# Altium schematic symbol library Componentes_base.SchLib: 431 symbols (part 12 of 12)
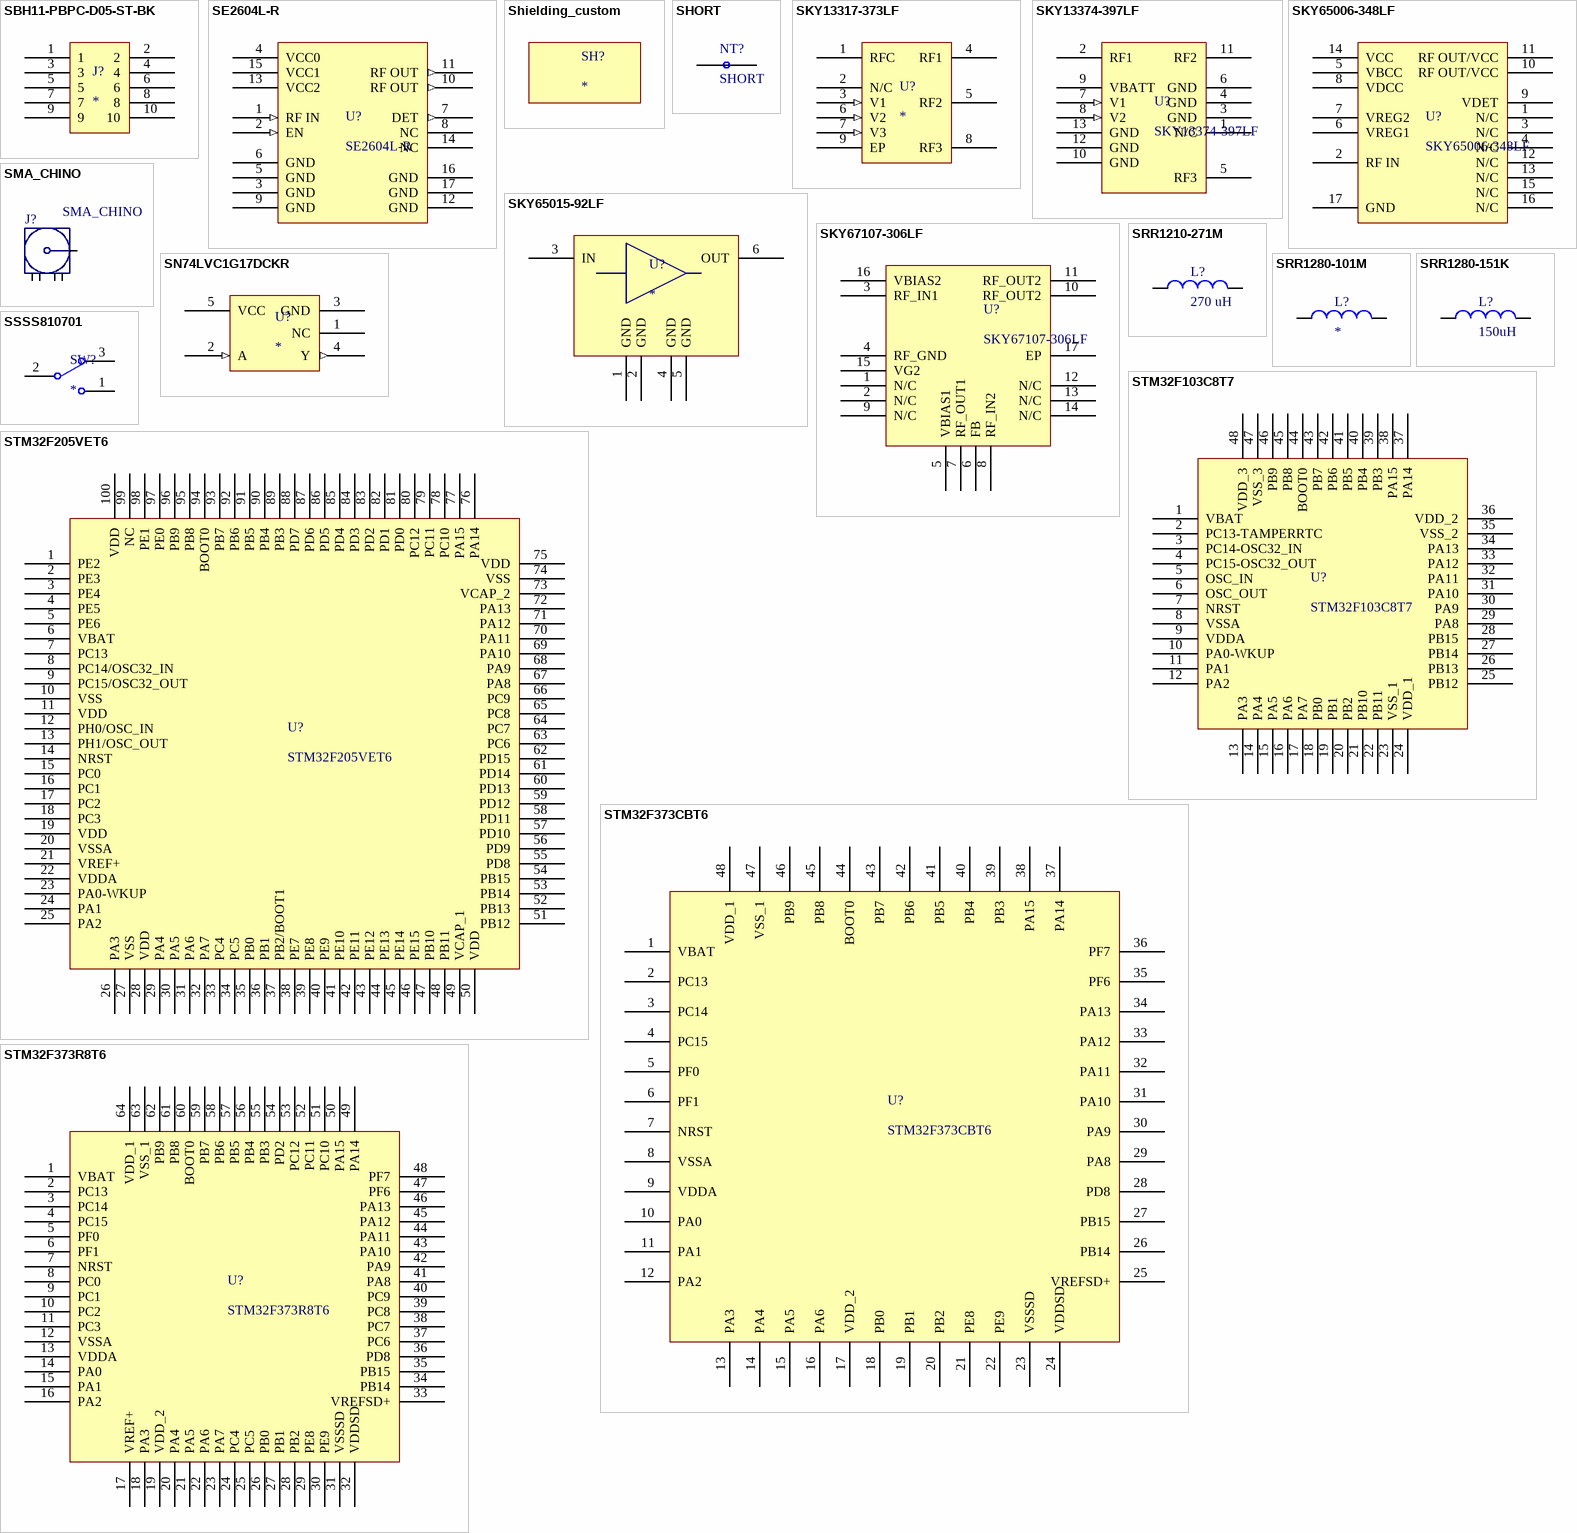
[diagram p25: symbols SBH11-PBPC-D05-ST-BK to STM32F373R8T6]

## SRR1280-151K
designator L?, comment 150uH
FIXED IND 150UH 1.85A 270 MOHM; Manufacturer: Bourns; Manufacturer Part Number: SRR1280-151K; Tolerance: 10; Core Material: Ferrite; Inductance: 150; DC Resistance (DCR): 270; Max DC Current: 1.85; Saturation Current: 1.9; Shielding: Shielded; Self Resonant Frequency: 4.1; Q Factor: 24; Resistance: 0.27; Test Frequency: 100; Material: Steel; Supplier 1: Farnell; Stock 1: 180; Pricing 1: 1=0.705, 10=0.66, 25=0.615, 50=0.529, 100=0.503 (EUR); Mount: Surface Mount; Case/Package: Nonstandard; Pins: 2; Min Operating Temperature: -40; Max Operating Temperature: 125; Package Quantity: 1; Current Rating: 1.85; Packaging: Tape and Reel; Frequency: 4.1; Composition: Wirewound; Termination: SMD; RMS Current (Irms): 1.85; DC Current: 1.85; Military Standard: Not; Length: 0.492; Height: 8; Width: 12.5; Height - Seated (Max): 0.315; Depth: 12.5; REACH SVHC: No SVHC; ComponentLink1URL: https://datasheet.ciiva.com/3082/srr1280-3082288.pdf; ComponentLink1Description: https://datasheet.ciiva.com/3082/srr1280-3082288.pdf; ComponentLink2URL: https://datasheet.ciiva.com/11802/0900766b80ddd400-11802893.pdf; ComponentLink2Description: https://datasheet.ciiva.com/11802/0900766b80ddd400-11802893.pdf; ComponentLink3URL: https://datasheet.ciiva.com/1049/srr1280-1049999.pdf; ComponentLink3Description: https://datasheet.ciiva.com/1049/srr1280-1049999.pdf; ComponentLink4URL: https://datasheet.ciiva.com/22678/1635217-22678093.pdf; ComponentLink4Description: https://datasheet.ciiva.com/22678/1635217-22678093.pdf; ComponentLink5URL: https://datasheet.ciiva.com/48488/srr1280-48488286.pdf; ComponentLink5Description: https://datasheet.ciiva.com/48488/srr1280-48488286.pdf; ComponentLink6URL: https://datasheet.ciiva.com/1049/srr1280-1049998.pdf; ComponentLink6Description: https://datasheet.ciiva.com/1049/srr1280-1049998.pdf; ComponentLink7URL: https://datasheet.ciiva.com/30158/srr1280-30158282.pdf; ComponentLink7Description: https://datasheet.ciiva.com/30158/srr1280-30158282.pdf; ComponentLink8URL: https://datasheet.ciiva.com/8516/srr1280-8516965.pdf; ComponentLink8Description: https://datasheet.ciiva.com/8516/srr1280-8516965.pdf; ComponentLink9URL: https://datasheet.ciiva.com/1050/srr1280-1050000.pdf; ComponentLink9Description: https://datasheet.ciiva.com/1050/srr1280-1050000.pdf; ComponentLink10URL: https://datasheet.ciiva.com/22717/1635217-22717989.pdf; ComponentLink10Description: https://datasheet.ciiva.com/22717/1635217-22717989.pdf; ComponentLink11URL: https://datasheet.ciiva.com/17285/srr1280-17285880.pdf; ComponentLink11Description: https://datasheet.ciiva.com/17285/srr1280-17285880.pdf; ComponentLink12URL: https://datasheet.ciiva.com/28679/1635217-28679735.pdf; ComponentLink12Description: https://datasheet.ciiva.com/28679/1635217-28679735.pdf; Supplier Part Number 1: 2393174
footprint INDP125125X80N (Precision Wire Wound Inductor, 2-Leads, Body 12,50x12,50mm, IPC Medium Density)
pins: 1, 2

## SSSS810701
designator SW?
Slide Switches Horiz 1 Pole 2 Pos 1.1 Knob 1.5 Travel; Manufacturer: ALPS; Manufacturer Part Number: SSSS810701; Contact Form: SPDT; Illumination: Non-Illuminated; Switch Function: ON - ON; Voltage Rating DC: 5 V; Contact Current Rating: 0.3 A at 5 V; Travel: 2 mm; Supplier 1: Mouser; RoHS: RoHS Compliant; Category: Slide Switches; Stock 1: 18812; Pricing 1: 1=0.216, 25=0.203, 50=0.188, 100=0.172, 1000=0.156, 4500=0.140 (EUR); Packaging: Reel; Brand: ALPS; Mounting Style: SMD/SMT; Standard Pack Qty: 4500; RoHS - Mouser: Y; Minimum Order Quantity: 1; Reeling: True; ComponentLink1URL: http://www.alps.com/products/WebObjects/catalog.woa/E/HTML/Switch/Slide/SSSS8/SSSS810701.html; ComponentLink1Description: http://www.alps.com/products/WebObjects/catalog.woa/E/HTML/Switch/Slide/SSSS8/SSSS810701.html; Supplier Part Number 1: 688-SSSS810701
footprint ALPS SSS810701 (ALPS SLIDE SWITCH SPDT SMD PC High Density)
pins: 1, 2, 3

## STM32F103C8T7
designator U?
ARM Microcontrollers - MCU 32BIT Cortex M3 Medium-density; Manufacturer: STMicroelectronics; Family Name: STM32F; Device Core: ARM Cortex M3; Program Memory Size: 64 kB; Maximum Frequency: 72MHz; RAM Size: 20 kB; USB Channels: 1 x Device; Number of PWM Units: 1; ADC Channels: 10; Number of SPI Channels: 2; Typical Operating Supply Voltage: 2 → 3.6 V; Timers: 3 x 16 bit; Pulse Width Modulation: 1(16 bit) (Motor Control); Instruction Set Architecture: RISC; PWM Resolution: 16bit; Program Memory Type: Flash; ADCs: 2(10 x 12 bit); Number of USART Channels: 3; ADC Resolution: 12bit; Supplier 1: Digi-Key; Manufacturer Part Number: STM32F103C8T7; Stock 1: 2415; Pricing 1: 1=5.05, 10=4.536, 250=3.5256, 500=3.1635, 1000=2.668 (USD); Package Type: LQFP; Mounting Type: Surface Mount; Pin Count: 48; Data Bus Width: 32bit; Dimensions: 7.2 x 7.2 x 1.45mm; Maximum Operating Temperature: +105 °C; Height: 1.45mm; Number of I2C Channels: 2; Number of CAN Channels: 1; Minimum Operating Temperature: -40 °C; Width: 7.2mm; Number of ADC Units: 2; Number of Timers: 3; Timer Resolution: 16bit; Length: 7.2mm; Supplier Part Number 1: 497-11517-ND
footprint TSQFP50P900X900X160-48N (TSQFP, 48-Leads, Body 7,00x7,00mm, Pitch 0,50mm, IPC Medium Density)
pins: 1 VBAT, 2 PC13-TAMPERRTC, 3 PC14-OSC32_IN, 4 PC15-OSC32_OUT, 5 OSC_IN, 6 OSC_OUT, 7 NRST, 8 VSSA, 9 VDDA, 10 PA0-WKUP, 11 PA1, 12 PA2, 13 PA3, 14 PA4, 15 PA5, 16 PA6, 17 PA7, 18 PB0, 19 PB1, 20 PB2, 21 PB10, 22 PB11, 23 VSS_1, 24 VDD_1, 25 PB12, 26 PB13, 27 PB14, 28 PB15, 29 PA8, 30 PA9, 31 PA10, 32 PA11, 33 PA12, 34 PA13, 35 VSS_2, 36 VDD_2, 37 PA14, 38 PA15, 39 PB3, 40 PB4, 41 PB5, 42 PB6, 43 PB7, 44 BOOT0, 45 PB8, 46 PB9, 47 VSS_3, 48 VDD_3

## STM32F205VET6
designator U?
IC MCU 32BIT 512KB FLASH 100LQFP; Manufacturer: STMicroelectronics; Core Processor: ARM® Cortex®-M3; Core Size: 32-Bit; Speed: 120MHz; Connectivity: CAN, I²C, IrDA, LIN, MMC, SPI, UART/USART, USB OTG; Peripherals: Brown-out Detect/Reset, DMA, I²S, LCD, POR, PWM, WDT; Number of I/O: 82; Program Memory Size: 512KB (512K x 8); RAM Size: 132K x 8; Voltage - Supply (Vcc/Vdd): 1.8 V ~ 3.6 V; Data Converters: A/D 16x12b; D/A 2x12b; Oscillator Type: Internal; Supplier 1: Digi-Key; Manufacturer Part Number: STM32F205VET6; RoHS: RoHS Compliant; Category: Integrated Circuits (ICs); Stock 1: 1188; Pricing 1: 1=9.78, 10=8.83, 100=7.3108, 500=6.36612, 1000=5.54468 (EUR); Packaging: Tray; Part Status: Active; Program Memory Type: FLASH; EEPROM Size: -; Operating Temperature: -40°C ~ 85°C (TA); Package / Case: 100-LQFP; Supplier Device Package: 100-LQFP (14x14); ComponentLink1URL: http://media.digikey.com/pdf/Data%20Sheets/ST%20Microelectronics%20PDFS/STM32F20(5,7)xx.pdf; ComponentLink1Description: http://media.digikey.com/pdf/Data%20Sheets/ST%20Microelectronics%20PDFS/STM32F20(5,7)xx.pdf; Supplier Part Number 1: 497-11160-ND
footprint LQFP-100 (TSQFP, 100-Leads, Body 14,00x14,00mm, Pitch 0,50mm, IPC Medium Density)
pins: 1 PE2, 2 PE3, 3 PE4, 4 PE5, 5 PE6, 6 VBAT, 7 PC13, 8 PC14/OSC32_IN, 9 PC15/OSC32_OUT, 10 VSS, 11 VDD, 12 PH0/OSC_IN, 13 PH1/OSC_OUT, 14 NRST, 15 PC0, 16 PC1, 17 PC2, 18 PC3, 19 VDD, 20 VSSA, 21 VREF+, 22 VDDA, 23 PA0-WKUP, 24 PA1, 25 PA2, 26 PA3, 27 VSS, 28 VDD, 29 PA4, 30 PA5, 31 PA6, 32 PA7, 33 PC4, 34 PC5, 35 PB0, 36 PB1, 37 PB2/BOOT1, 38 PE7, 39 PE8, 40 PE9, 41 PE10, 42 PE11, 43 PE12, 44 PE13, 45 PE14, 46 PE15, 47 PB10, 48 PB11, 49 VCAP_1, 50 VDD, 51 PB12, 52 PB13, 53 PB14, 54 PB15, 55 PD8, 56 PD9, 57 PD10, 58 PD11, 59 PD12, 60 PD13, 61 PD14, 62 PD15, 63 PC6, 64 PC7, 65 PC8, 66 PC9, 67 PA8, 68 PA9, 69 PA10, 70 PA11, 71 PA12, 72 PA13, 73 VCAP_2, 74 VSS, 75 VDD, 76 PA14, 77 PA15, 78 PC10, 79 PC11, 80 PC12, 81 PD0, 82 PD1, 83 PD2, 84 PD3, 85 PD4, 86 PD5, 87 PD6, 88 PD7, 89 PB3, 90 PB4, 91 PB5, 92 PB6, 93 PB7, 94 BOOT0, 95 PB8, 96 PB9, 97 PE0, 98 PE1, 99 NC, 100 VDD

## STM32F373CBT6
designator U?
IC MCU 32BIT 128KB FLASH 48LQFP; Manufacturer: STMicroelectronics; Core Processor: ARM® Cortex®-M4; Core Size: 32-Bit; Speed: 72MHz; Connectivity: CAN, I²C, IrDA, LIN, SPI, UART/USART, USB; Peripherals: DMA, I²S, POR, PWM, WDT; Number of I/O: 36; Program Memory Size: 128KB (128K x 8); RAM Size: 24K x 8; Voltage - Supply (Vcc/Vdd): 2 V ~ 3.6 V; Data Converters: A/D 1x12b, 3x16b, D/A 3x12b; Oscillator Type: Internal; Supplier 1: Digi-Key; Manufacturer Part Number: STM32F373CBT6; RoHS: RoHS Compliant; Category: Integrated Circuits (ICs); Stock 1: 1994; Pricing 1: 1=4.39, 10=3.935, 100=3.2242, 500=2.7447, 1000=2.31481 (EUR); Packaging: Tray; Part Status: Active; Program Memory Type: FLASH; EEPROM Size: -; Operating Temperature: -40°C ~ 85°C (TA); Package / Case: 48-LQFP; Supplier Device Package: 48-LQFP (7x7); ComponentLink1URL: http://www.st.com/content/ccc/resource/technical/document/datasheet/f0/ac/ee/70/19/13/4f/56/DM00046749.pdf/files/DM00046749.pdf/jcr:content/translations/en.DM00046749.pdf; ComponentLink1Description: http://www.st.com/content/ccc/resource/technical/document/datasheet/f0/ac/ee/70/19/13/4f/56/DM00046749.pdf/files/DM00046749.pdf/jcr:content/translations/en.DM00046749.pdf; Supplier Part Number 1: 497-13309-ND
footprint LQFP-48 (TSQFP, 48-Leads, Body 7,20x7,20mm, Pitch 0,50mm, IPC Medium Density)
pins: 1 VBAT, 2 PC13, 3 PC14, 4 PC15, 5 PF0, 6 PF1, 7 NRST, 8 VSSA, 9 VDDA, 10 PA0, 11 PA1, 12 PA2, 13 PA3, 14 PA4, 15 PA5, 16 PA6, 17 VDD_2, 18 PB0, 19 PB1, 20 PB2, 21 PE8, 22 PE9, 23 VSSSD, 24 VDDSD, 25 VREFSD+, 26 PB14, 27 PB15, 28 PD8, 29 PA8, 30 PA9, 31 PA10, 32 PA11, 33 PA12, 34 PA13, 35 PF6, 36 PF7, 37 PA14, 38 PA15, 39 PB3, 40 PB4, 41 PB5, 42 PB6, 43 PB7, 44 BOOT0, 45 PB8, 46 PB9, 47 VSS_1, 48 VDD_1

## STM32F373R8T6
designator U?
IC MCU 32BIT 64KB FLASH 64LQFP; Manufacturer: STMicroelectronics; Core Processor: ARM® Cortex®-M4; Core Size: 32-Bit; Speed: 72MHz; Connectivity: CAN, I²C, IrDA, LIN, SPI, UART/USART, USB; Peripherals: DMA, I²S, POR, PWM, WDT; Number of I/O: 52; Program Memory Size: 64KB (64K x 8); RAM Size: 16K x 8; Voltage - Supply (Vcc/Vdd): 2 V ~ 3.6 V; Data Converters: A/D 1x12b, 3x16b, D/A 3x12b; Oscillator Type: Internal; Supplier 1: Digi-Key; Manufacturer Part Number: STM32F373R8T6; RoHS: RoHS Compliant; Category: Integrated Circuits (ICs); Stock 1: 6; Pricing 1: 1=4.42, 10=3.971, 100=3.2534, 500=2.76954, 1000=2.33576 (EUR); Packaging: Tray; Part Status: Active; Program Memory Type: FLASH; EEPROM Size: -; Operating Temperature: -40°C ~ 85°C (TA); Package / Case: 64-LQFP; Supplier Device Package: 64-LQFP (10x10); ComponentLink1URL: http://www.st.com/content/ccc/resource/technical/document/datasheet/f0/ac/ee/70/19/13/4f/56/DM00046749.pdf/files/DM00046749.pdf/jcr:content/translations/en.DM00046749.pdf; ComponentLink1Description: http://www.st.com/content/ccc/resource/technical/document/datasheet/f0/ac/ee/70/19/13/4f/56/DM00046749.pdf/files/DM00046749.pdf/jcr:content/translations/en.DM00046749.pdf; Supplier Part Number 1: 497-13315-ND
footprint LQFP-64 (TSQFP, 64-Leads, Body 10,00x10,00mm, Pitch 0,50mm, IPC Medium Density)
pins: 1 VBAT, 2 PC13, 3 PC14 , 4 PC15 , 5 PF0 , 6 PF1 , 7 NRST, 8 PC0, 9 PC1, 10 PC2, 11 PC3, 12 VSSA, 13 VDDA, 14 PA0, 15 PA1, 16 PA2, 17 VREF+, 18 PA3, 19 VDD_2, 20 PA4, 21 PA5, 22 PA6, 23 PA7, 24 PC4, 25 PC5, 26 PB0, 27 PB1, 28 PB2, 29 PE8, 30 PE9, 31 VSSSD, 32 VDDSD, 33 VREFSD+, 34 PB14, 35 PB15, 36 PD8, 37 PC6, 38 PC7, 39 PC8, 40 PC9, 41 PA8, 42 PA9, 43 PA10, 44 PA11, 45 PA12, 46 PA13, 47 PF6, 48 PF7, 49 PA14, 50 PA15, 51 PC10, 52 PC11, 53 PC12, 54 PD2, 55 PB3, 56 PB4, 57 PB5, 58 PB6, 59 PB7, 60 BOOT0, 61 PB8, 62 PB9, 63 VSS_1, 64 VDD_1

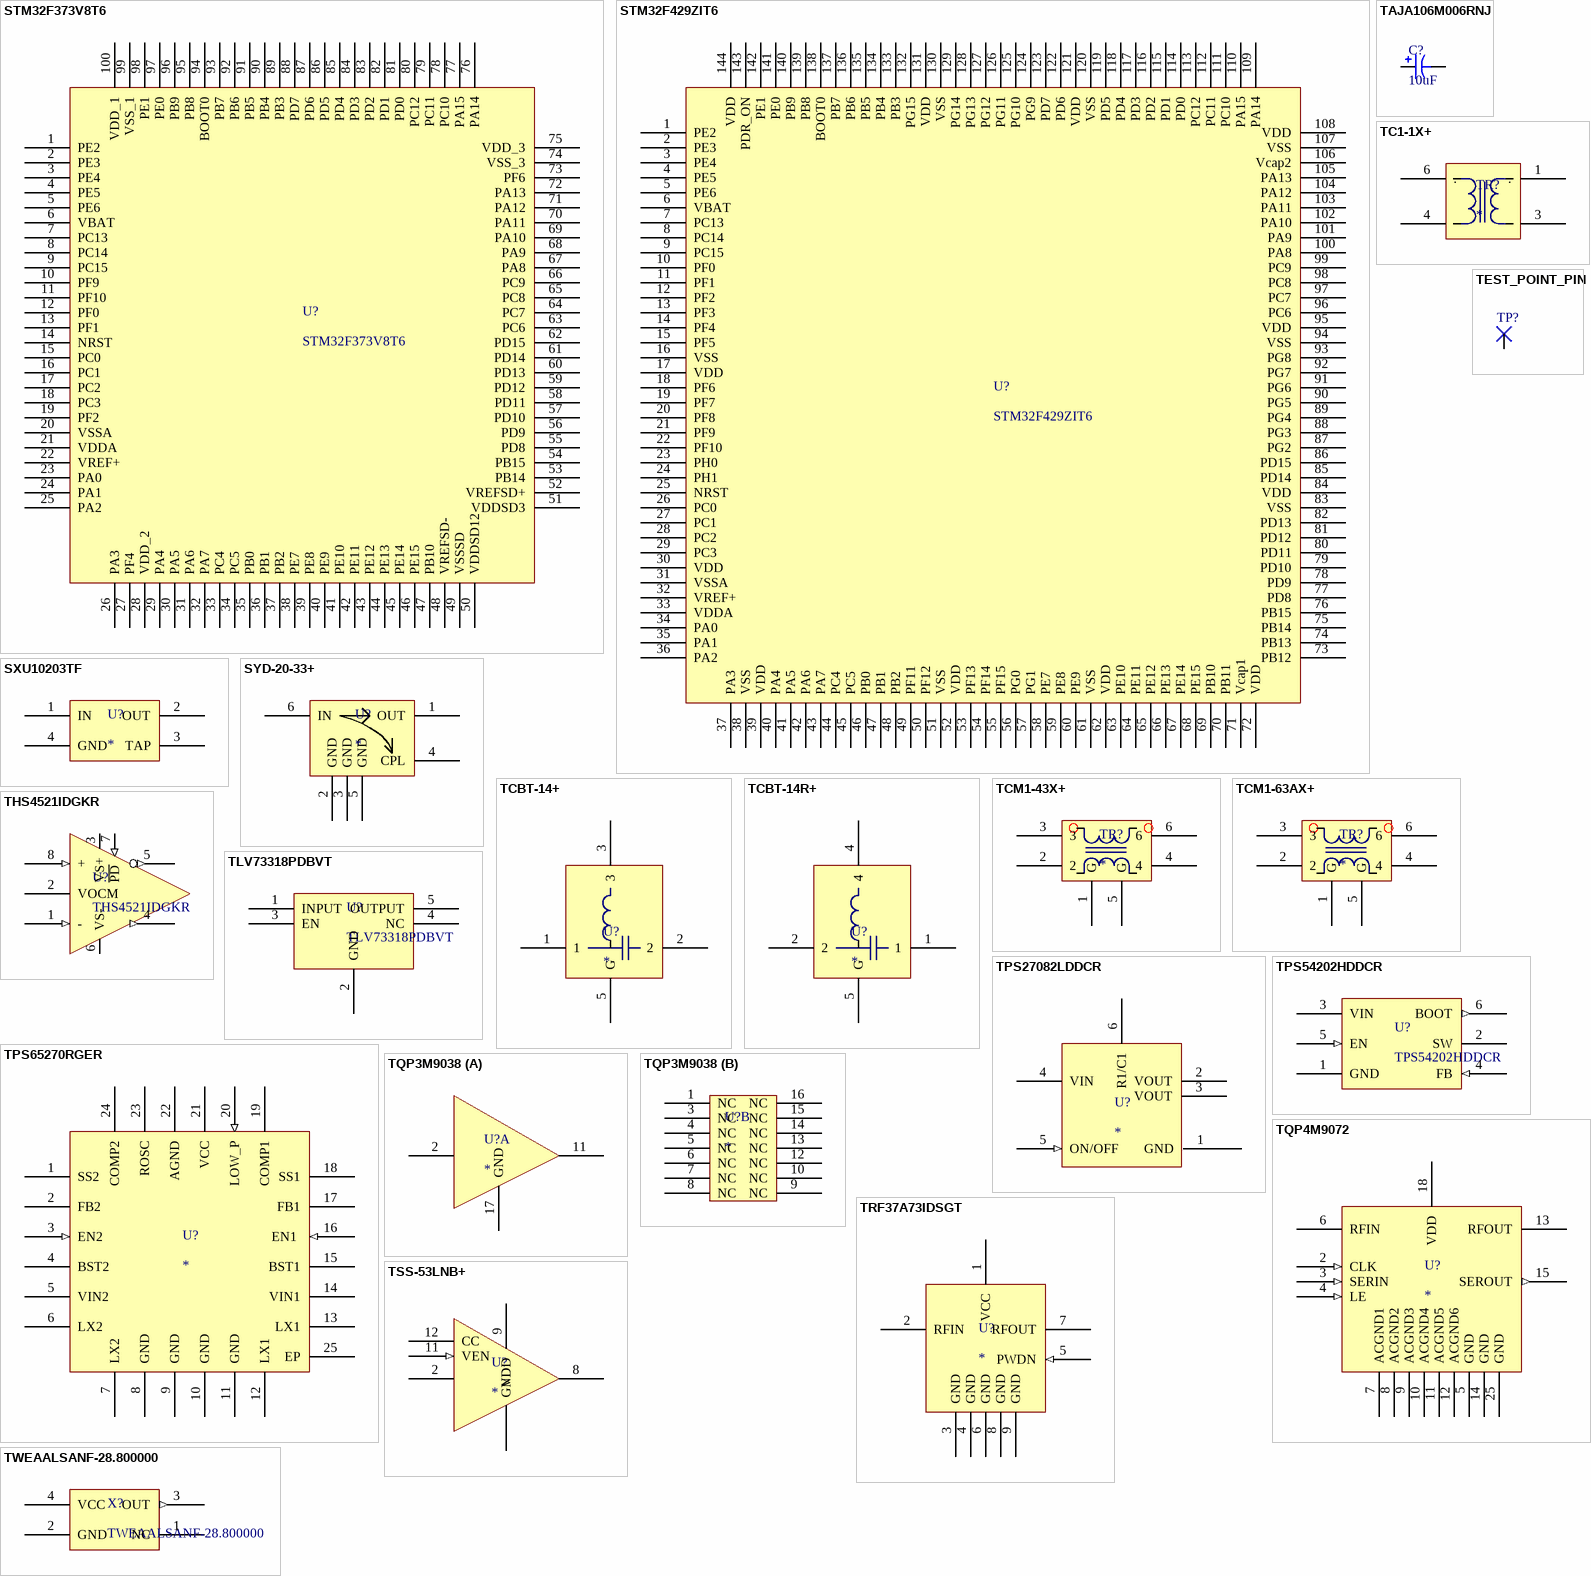
[diagram p13: symbols STM32F373V8T6 to TWEAALSANF-28.800000]

## STM32F373V8T6
designator U?
IC MCU 32BIT 64KB FLASH 100LQFP; Manufacturer: STMicroelectronics; Core Processor: ARM® Cortex®-M4; Core Size: 32-Bit; Speed: 72MHz; Connectivity: CAN, I²C, IrDA, LIN, SPI, UART/USART, USB; Peripherals: DMA, I²S, POR, PWM, WDT; Number of I/O: 84; Program Memory Size: 64KB (64K x 8); RAM Size: 16K x 8; Voltage - Supply (Vcc/Vdd): 2 V ~ 3.6 V; Data Converters: A/D 1x12b, 3x16b, D/A 3x12b; Oscillator Type: Internal; Supplier 1: Digi-Key; Manufacturer Part Number: STM32F373V8T6; RoHS: RoHS Compliant; Category: Integrated Circuits (ICs); Stock 1: 416; Pricing 1: 1=5.05, 10=4.536, 100=3.7166, 500=3.16386, 1000=2.66831 (EUR); Packaging: Tray; Part Status: Active; Program Memory Type: FLASH; EEPROM Size: -; Operating Temperature: -40°C ~ 85°C (TA); Package / Case: 100-LQFP; Supplier Device Package: 100-LQFP (14x14); ComponentLink1URL: http://www.st.com/content/ccc/resource/technical/document/datasheet/f0/ac/ee/70/19/13/4f/56/DM00046749.pdf/files/DM00046749.pdf/jcr:content/translations/en.DM00046749.pdf; ComponentLink1Description: http://www.st.com/content/ccc/resource/technical/document/datasheet/f0/ac/ee/70/19/13/4f/56/DM00046749.pdf/files/DM00046749.pdf/jcr:content/translations/en.DM00046749.pdf; Supplier Part Number 1: 497-13305-ND
footprint LQFP-100 (TSQFP, 100-Leads, Body 14,00x14,00mm, Pitch 0,50mm, IPC Medium Density)
pins: 1 PE2, 2 PE3, 3 PE4, 4 PE5, 5 PE6, 6 VBAT, 7 PC13, 8 PC14 , 9 PC15 , 10 PF9, 11 PF10, 12 PF0, 13 PF1, 14 NRST, 15 PC0, 16 PC1, 17 PC2, 18 PC3, 19 PF2, 20 VSSA, 21 VDDA, 22 VREF+, 23 PA0, 24 PA1, 25 PA2, 26 PA3, 27 PF4, 28 VDD_2, 29 PA4, 30 PA5, 31 PA6, 32 PA7, 33 PC4, 34 PC5, 35 PB0, 36 PB1, 37 PB2, 38 PE7, 39 PE8, 40 PE9, 41 PE10, 42 PE11, 43 PE12, 44 PE13, 45 PE14, 46 PE15, 47 PB10, 48 VREFSD-, 49 VSSSD, 50 VDDSD12, 51 VDDSD3, 52 VREFSD+, 53 PB14, 54 PB15, 55 PD8, 56 PD9, 57 PD10, 58 PD11, 59 PD12, 60 PD13, 61 PD14, 62 PD15, 63 PC6, 64 PC7, 65 PC8, 66 PC9, 67 PA8, 68 PA9, 69 PA10, 70 PA11, 71 PA12, 72 PA13, 73 PF6, 74 VSS_3, 75 VDD_3, 76 PA14, 77 PA15, 78 PC10, 79 PC11, 80 PC12, 81 PD0, 82 PD1, 83 PD2, 84 PD3, 85 PD4, 86 PD5, 87 PD6, 88 PD7, 89 PB3, 90 PB4, 91 PB5, 92 PB6, 93 PB7, 94 BOOT0, 95 PB8, 96 PB9, 97 PE0, 98 PE1, 99 VSS_1, 100 VDD_1

## STM32F429ZIT6
designator U?
IC MCU 32BIT 2MB FLASH 144LQFP; Manufacturer: STMicroelectronics; Core Processor: ARM® Cortex®-M4; Core Size: 32-Bit; Speed: 180MHz; Connectivity: CAN, EBI/EMI, I²C, IrDA, LIN, SPI, UART/USART, USB OTG; Peripherals: Brown-out Detect/Reset, DMA, I²S, LCD, POR, PWM, WDT; Number of I/O: 114; Program Memory Size: 2MB (2M x 8); RAM Size: 256K x 8; Voltage - Supply (Vcc/Vdd): 1.8 V ~ 3.6 V; Data Converters: A/D 24x12b, A/D 2x12b; Oscillator Type: Internal; Circuit: SPST-NO; Switch Function: Off-Mom; Contact Rating @ Voltage: 0.05A @ 24VDC; Actuator Type: Standard; Actuator Height off PCB, Vertical: 7.00mm; Actuator Orientation: Top Actuated; Outline: 6.00mm x 6.00mm; Illumination: Non-Illuminated; Operating Force: 160gf; Actuator Material: Polyamide (PA66), Nylon 6/6; Switch Travel: 0.25mm; Mechanical Life: 100,000 Cycles; Protocol: USB 2.0; Number of Drivers/Receivers: 1/1; Duplex: Half; Voltage - Supply: 1.8 V ~ 3.3 V; Bridge Type: USB to UART; Supply Voltage Min: 3V; Supply Voltage Max: 3.6V; Interface Case Style: QFN; No. of Pins: 20Pins; SVHC: To Be Advised; Supplier 1: Digi-Key; Manufacturer Part Number: STM32F429ZIT6; RoHS: RoHS Compliant; Category: Integrated Circuits (ICs); Stock 1: 657; Pricing 1: 1=15.09, 10=13.871, 100=11.7149, 500=10.42118 (EUR); Packaging: Tray; Part Status: Active; Program Memory Type: FLASH; EEPROM Size: -; Operating Temperature: -40°C ~ 85°C (TA); Package / Case: 144-LQFP; ComponentLink1URL: http://www.st.com/content/ccc/resource/technical/document/datasheet/03/b4/b2/36/4c/72/49/29/DM00071990.pdf/files/DM00071990.pdf/jcr:content/translations/en.DM00071990.pdf; ComponentLink1Description: http://www.st.com/content/ccc/resource/technical/document/datasheet/03/b4/b2/36/4c/72/49/29/DM00071990.pdf/files/DM00071990.pdf/jcr:content/translations/en.DM00071990.pdf; Supplier Part Number 1: 497-14053-ND; Mounting Type: Through Hole; Actuator Length, Right Angle: -; Termination Style: PC Pin; Illumination Type, Color: -; Illumination Voltage (Nominal): -; Ingress Protection: -; Features: -; ComponentLink2URL: http://www.te.com/commerce/DocumentDelivery/DDEController?Action=srchrtrv&DocNm=1825910&DocType=Customer+Drawing&DocLang=English; ComponentLink2Description: http://www.te.com/commerce/DocumentDelivery/DDEController?Action=srchrtrv&DocNm=1825910&DocType=Customer+Drawing&DocLang=English; Type: Transceiver; Data Rate: -; Supplier Device Package: 32-QFN (5x5); ComponentLink3URL: http://www.microchip.com/mymicrochip/filehandler.aspx?ddocname=en562261; ComponentLink3Description: http://www.microchip.com/mymicrochip/filehandler.aspx?ddocname=en562261; Operating Temperature Min: -40°C; Operating Temperature Max: 85°C; Product Range: -; Automotive Qualification Standard: -; MSL: MSL 2 - 1 year
footprint LQFP-144
pins: 1 PE2, 2 PE3, 3 PE4, 4 PE5, 5 PE6, 6 VBAT, 7 PC13, 8 PC14, 9 PC15, 10 PF0, 11 PF1, 12 PF2, 13 PF3, 14 PF4, 15 PF5, 16 VSS, 17 VDD, 18 PF6, 19 PF7, 20 PF8, 21 PF9, 22 PF10, 23 PH0, 24 PH1, 25 NRST, 26 PC0, 27 PC1, 28 PC2, 29 PC3, 30 VDD, 31 VSSA, 32 VREF+, 33 VDDA, 34 PA0, 35 PA1, 36 PA2, 37 PA3, 38 VSS, 39 VDD, 40 PA4, 41 PA5, 42 PA6, 43 PA7, 44 PC4, 45 PC5, 46 PB0, 47 PB1, 48 PB2, 49 PF11, 50 PF12, 51 VSS, 52 VDD, 53 PF13, 54 PF14, 55 PF15, 56 PG0, 57 PG1, 58 PE7, 59 PE8, 60 PE9, 61 VSS, 62 VDD, 63 PE10, 64 PE11, 65 PE12, 66 PE13, 67 PE14, 68 PE15, 69 PB10, 70 PB11, 71 Vcap1, 72 VDD, 73 PB12, 74 PB13, 75 PB14, 76 PB15, 77 PD8, 78 PD9, 79 PD10, 80 PD11, 81 PD12, 82 PD13, 83 VSS, 84 VDD, 85 PD14, 86 PD15, 87 PG2, 88 PG3, 89 PG4, 90 PG5, 91 PG6, 92 PG7, 93 PG8, 94 VSS, 95 VDD, 96 PC6, 97 PC7, 98 PC8, 99 PC9, 100 PA8, 101 PA9, 102 PA10, 103 PA11, 104 PA12, 105 PA13, 106 Vcap2, 107 VSS, 108 VDD, 109 PA14, 110 PA15, 111 PC10, 112 PC11, 113 PC12, 114 PD0, 115 PD1, 116 PD2, 117 PD3, 118 PD4, 119 PD5, 120 VSS, 121 VDD, 122 PD6, 123 PD7, 124 PG9, 125 PG10, 126 PG11, 127 PG12, 128 PG13, 129 PG14, 130 VSS, 131 VDD, 132 PG15, 133 PB3, 134 PB4, 135 PB5, 136 PB6, 137 PB7, 138 BOOT0, 139 PB8, 140 PB9, 141 PE0, 142 PE1, 143 PDR_ON, 144 VDD

## SXU10203TF
designator U?
POWER SAMPLER CHIP 2 WATT  20dB; Manufacturer: EMC Technology, Inc; Manufacturer Part Number: SXU10203TF; Pricing 1: 100 =3,82 (EUR); Supplier 1: rfmw; Supplier Part Number 1: SXU10203TF
footprint LCC127P381X381X51-4L, SXUXXXX3TF Alumina (LCC, 4-Pins, Body 3,81x3,81mmx0,51mm, Pitch 1,27mm, IPC High Density)
pins: 1 IN, 2 OUT, 3 TAP, 4 GND

## SYD-20-33+
designator U?
30 MHz to 3 GHz 20 dB directional coupler; Manufacturer: Minicircuits; Manufacturer Part Number: SYD-20-33+; Pricing 1: 1=20.83, 10=16.89 (EUR); Supplier 1: Minicircuits; Supplier Part Number 1: SYD-20-33+
footprint AH202 (Minicircuits AH202)
pins: 1 OUT, 2 GND, 3 GND, 4 CPL, 5 GND, 6 IN

## TAJA106M006RNJ
designator C?, comment 10uF
CAP TANT 10UF 6.3V 20% 1206; Manufacturer: AVX Corporation; Manufacturer Part Number: TAJA106M006RNJ; Manufacturer Size Code: A; Type: Molded; ESR (Equivalent Series Resistance): 4 Ohm; Supplier 1: Digi-Key; RoHS: RoHS Compliant; Category: Capacitors; Stock 1: 16813; Pricing 1: 1=0.47, 10=0.326, 100=0.2146, 500=0.15896, 1000=0.13512 (EUR); Packaging: Cut Tape (CT); Part Status: Active; Tolerance: ±20%; Operating Temperature: -55°C ~ 125°C; Lifetime @ Temp.: -; Mounting Type: Surface Mount; Package / Case: 1206 (3216 Metric); Size / Dimension: 0.126" L x 0.063" W (3.20mm x 1.60mm); Height - Seated (Max): 0.071" (1.80mm); Lead Spacing: -; Features: General Purpose; Failure Rate: -; ComponentLink1URL: http://datasheets.avx.com/TAJ.pdf; ComponentLink1Description: http://datasheets.avx.com/TAJ.pdf; Supplier Part Number 1: 478-1656-1-ND
footprint CAPC3216X09L (Chip Capacitor, 2-Leads, Body 3,20x1,60mm, IPC High Density)
pins: 1, 2

## TC1-1X+
designator TR?
RF Transformer 50 ohm 1.5 MHz - 500 MHz; Manufacturer: Minicircuits; Manufacturer Part Number: TC1-1X+; Pricing 1: 20=2.19 (EUR); Supplier 1: Minicircuits; Supplier Part Number 1: TC1-1X+
footprint MINICIRCUITS AT1521 (5-Leads, Body 3,81x3,81mm, Pitch 1,27mm, IPC High Density)
pins: 1 ., 3, 4, 6 .

## TCBT-14+
designator U?
10MHz - 10 GHz 200mA Bias Tee; Manufacturer: Minicircuits; Manufacturer Part Number: TCBT-14+; Pricing 1: 10=8.02 (EUR); Supplier 1: Minicircuits; Supplier Part Number 1: TCBT-14+
footprint GU1414 (Minicircuits GU1414,  5-Leads, Body 3,81x3,81mm, Pitch 1,25mm, IPC Medium Density)
pins: 1, 2, 3 (power), 5 G

## TCBT-14R+
designator U?
10MHz - 10 GHz 200mA Bias Tee; Manufacturer: Minicircuits; Manufacturer Part Number: TCBT-14+; Pricing 1: 10=8.02 (EUR); Supplier 1: Minicircuits; Supplier Part Number 1: TCBT-14+
footprint GU1414R (Minicircuits GU1414,  5-Leads, Body 3,81x3,81mm, Pitch 1,25mm, IPC Medium Density)
pins: 1, 2, 4 (power), 5 G

## TCM1-43X+
designator TR?
RF Transformer 50 ohm 10 MHz - 4000 MHz; Manufacturer: Minicircuits; Manufacturer Part Number: TCM1-43X+; Pricing 1: 20=6.6 (EUR); Supplier 1: Minicircuits; Supplier Part Number 1: TCM1-43X+
footprint DB1627406X406-6N (Minicircuits DB1627, 6-Leads, Body 3,81x4,06mm, Pitch 1,27mm, IPC Medium Density)
pins: 1 G (power), 2, 3, 4, 5 G (power), 6

## TCM1-63AX+
designator TR?
RF Transformer 50 ohm 10 MHz - 6000 MHz; Manufacturer: Minicircuits; Manufacturer Part Number: TCM1-63AX+; Pricing 1: 20=3.03 (EUR); Supplier 1: Minicircuits; Supplier Part Number 1: TCM1-63AX+
footprint DB1627406X406-6N (Minicircuits DB1627, 6-Leads, Body 3,81x4,06mm, Pitch 1,27mm, IPC Medium Density)
pins: 1 G (power), 2, 3, 4, 5 G (power), 6

## TEST_POINT_PIN
designator TP?  (value not drawn)  (no BOM)
Test point for single pin
footprint TESTPOINT (TThrough hole test point)
footprint TP127
footprint TESTPOINT 1mm
pins: 1

## THS4521IDGKR
designator U?
IC OPAMP DIFF 95MHZ RRO 8VSSOP; Manufacturer: Texas Instruments; Amplifier Type: Differential; Number of Circuits: 1; Output Type: Differential, Rail-to-Rail; Slew Rate: 600 V/µs; -3db Bandwidth: 145MHz; Current - Supply: 1.14mA; Current - Output / Channel: 55mA; Voltage - Supply, Single/Dual (±): 2.5 V ~ 5.5 V, ±1.25 V ~ 2.75 V; Supplier 1: Digi-Key; Manufacturer Part Number: THS4521IDGKR; RoHS: RoHS Compliant; Category: Integrated Circuits (ICs); Stock 1: 22575; Pricing 1: 1=2.78, 10=2.497, 100=2.0456, 500=1.74132, 1000=1.46858 (EUR); Packaging: Digi-Reel®; Part Status: Active; Operating Temperature: -40°C ~ 85°C; Mounting Type: Surface Mount; Package / Case: 8-TSSOP, 8-MSOP (0.118", 3.00mm Width); Supplier Device Package: 8-VSSOP; ComponentLink1URL: http://www.ti.com/lit/ds/symlink/ths4521.pdf; ComponentLink1Description: http://www.ti.com/lit/ds/symlink/ths4521.pdf; Supplier Part Number 1: 296-35973-6-ND
footprint MSOP-8 (TSOP, 8-Leads, Body 3,00x3,00mm, Pitch 0,65mm, IPC Medium Density)
pins: 1 - (in), 2 VOCM, 3 VS+ (power), 4 +OUT (out), 5 -OUT (out), 6 VS- (power), 7 ~{PD} (in), 8 + (in)

## TLV73318PDBVT
designator U?
TEXAS INSTRUMENTS   TLV73318PDBVT   Fixed LDO Voltage Regulator, 1.4V to 5.5V, 122mV Dropout, 1.8Vout, 300mAout, SOT-23-5; Output Voltage: 1 V to 3.3 V; Output Current: 300 mA; Load Regulation: 25 mV; Line Regulation: 1 mV/V; PSRR / Ripple Rejection - Typ: 28 dB; Voltage Regulation Accuracy: 1 %; Unit Weight: 0.000557 oz; Supplier 1: Digi-Key; Manufacturer: Texas Instruments; Manufacturer Part Number: TLV73318PDBVT; Stock 1: 5268; Pricing 1: 1=0.4, 10=0.344, 100=0.2567 (USD); Product Category: LDO Voltage Regulators; RoHS: True; Mounting Style: SMD/SMT; Package / Case: SOT-23-5; Input Voltage MAX: 5.5 V; Output Type: Fixed; Maximum Operating Temperature: + 125 C; Series: TLV73318P; Dropout Voltage: 122 mV; Brand: Texas Instruments; Dropout Voltage - Max: 122 mV; Height: 1.45 mm; Input Voltage MIN: 1.4 V; Length: 3.05 mm; Minimum Operating Temperature: - 40 C; Operating Temperature Range: - 40 C to + 125 C; Packaging: Reel; Product: Low Dropout Regulator; Factory Pack Quantity: 250; Width: 1.75 mm; Supplier Part Number 1: 296-38490-1-ND
footprint SOT95P280X110-5N (SOT23, 5-Leads, Body 2,90x2,80mm, Pitch 0,95mm, IPC Medium Density)
pins: 1 INPUT, 2 GND, 3 EN, 4 NC, 5 OUTPUT

## TPS27082LDDCR
designator U?
Power Switch ICs - Power Distribution PFET Load Switch w/ Adj Slew Rate; Manufacturer: Texas Instruments; Manufacturer Part Number: TPS27082LDDCR; Number of Outputs: 2 Output; On Resistance - Max: 155 mOhms; Supply Current - Max: 3 A; Maximum Power Dissipation: 1190 mW; Operating Supply Voltage: 1.2 V to 8 V; Product Status: New Product; Switch Type: General Purpose; Ratio - Input:Output: 1:1; Output Configuration: High Side; Output Type: P-Channel; Interface: On/Off; Voltage - Load: 1.2 V ~ 8 V; Voltage - Supply (Vcc/Vdd): Not Required; Current - Output (Max): 3A; Rds (On): 32 mOhm; Supplier 1: Mouser; Supplier Part Number 1: 595-TPS27082LDDCR; RoHS: RoHS Compliant; Category: Power Switch ICs - Power Distribution; Stock 1: 50656; Pricing 1: 1=0.450, 10=0.343, 100=0.181, 1000=0.162, 3000=0.138, 9000=0.128, 24000=0.121, 45000=0.119, 99000=0.114 (EUR); Package/Case: SOT-23-6; Packaging: Reel; Series: TPS27082L; Brand: Texas Instruments; Mounting Style: SMD/SMT; Switch Current - Max: 3 A; Maximum Operating Temperature: + 125 C; Minimum Operating Temperature: - 40 C; Standard Pack Qty: 3000; RoHS - Mouser: Y; Minimum Order Quantity: 1; Reeling: True; ComponentLink1URL: http://www.mouser.com/ds/2/405/tps27082l-437514.pdf; ComponentLink1Description: http://www.mouser.com/ds/2/405/tps27082l-437514.pdf; Supplier 2: Digi-Key; Supplier Part Number 2: 296-35595-1-ND; Stock 2: 32445; Pricing 2: 1=0.48, 10=0.399, 25=0.3496, 100=0.2991, 250=0.2594, 500=0.2197, 750=0.18971, 1000=0.16938 (EUR); Input Type: -; Features: Slew Rate Controlled; Fault Protection: -; Operating Temperature: -40°C ~ 125°C (TA); Package / Case: SOT-23-6 Thin, TSOT-23-6; ComponentLink2URL: http://www.ti.com/lit/ds/symlink/tps27082l.pdf; ComponentLink2Description: http://www.ti.com/lit/ds/symlink/tps27082l.pdf
footprint SOT95P280X100-6N (SOT23, 6-Leads, Body 2,90x2,80mm, Pitch 0,95mm, IPC Medium Density)
pins: 1 GND (power), 2 VOUT (power), 3 VOUT (power), 4 VIN (power), 5 ON/OFF (in), 6 R1/C1

## TPS54202HDDCR
designator U?
IC REG BUCK ADJ 2A SYNC; Manufacturer: Texas Instruments; Function: Step-Down; Output Configuration: Positive; Output Type: Adjustable; Number of Outputs: 1; Voltage - Input (Min): 4.5V; Voltage - Input (Max): 28V; Voltage - Output (Min/Fixed): 0.596V; Frequency - Switching: 500kHz; Synchronous Rectifier: Yes; Supplier 1: Digi-Key; Manufacturer Part Number: TPS54202HDDCR; RoHS: RoHS Compliant; Category: Integrated Circuits (ICs); Stock 1: 3166; Pricing 1: 1=1.57, 10=1.409, 100=1.1326, 500=0.9306, 1000=0.77107 (EUR); Packaging: Cut Tape (CT); Part Status: Active; Topology: Buck; Voltage - Output (Max): 28V; Current - Output: 2A; Operating Temperature: -40°C ~ 125°C (TJ); Mounting Type: Surface Mount; Package / Case: SOT-23-6 Thin, TSOT-23-6; Supplier Device Package: SOT-6; ComponentLink1URL: http://www.ti.com/lit/ds/symlink/tps54202h.pdf; ComponentLink1Description: http://www.ti.com/lit/ds/symlink/tps54202h.pdf; Supplier Part Number 1: 296-44396-1-ND
footprint SOT23127P600-8N-D6
pins: 1 GND (power), 2 SW (power), 3 VIN (power), 4 FB (in), 5 EN (in), 6 BOOT (out)

## TPS65270RGER
designator U?
PMIC Solutions 2 Buck Cnvrtr w/ 4.5-16Vin Vltg; Manufacturer: Texas Instruments; Manufacturer Part Number: TPS65270RGER; Description/Function: A monolithic dual synchronous buck regulator with wide operating input voltage that can operate bus voltages and battery chemistries; Input Voltage: 18 V; Number of Outputs: 2; Output Current: 3 A; Output Voltage: 15 V; Supply Current: 1 mA; Topology: Buck (Step-Down); Output Type: Adjustable; Voltage - Output: 0.8 V ~ 15 V; Voltage - Input: 4.5 V ~ 16 V; Frequency - Switching: 300kHz ~ 1.4MHz; Current - Output: 2A, 3A; Synchronous Rectifier: Yes; Supplier 1: Mouser; Supplier Part Number 1: 595-TPS65270RGER; RoHS: RoHS Compliant; Category: PMIC Solutions; Stock 1: 2335; Pricing 1: 1=2.72, 10=2.43, 25=2.19, 50=2.08, 100=1.99, 250=1.80, 500=1.61, 750=1.45, 1000=1.30, 3000=1.30 (EUR); Operating Temperature Range: - 40 C to + 85 C; Package/Case: VQFN-24; Packaging: Reel; Product: Power Supply Controllers; Series: TPS65270; Supply Voltage: 18 V; Type: Step-Down Regulator; Brand: Texas Instruments; Mounting Style: SMD/SMT; Maximum Operating Temperature: + 85 C; Minimum Operating Temperature: - 40 C; Product Category: Multi-Channel IC Solutions (PMIC); Standard Pack Qty: 3000; RoHS - Mouser: Y; Minimum Order Quantity: 1; Reeling: True; ComponentLink1URL: http://www.mouser.com/ds/2/405/tps65270-449835.pdf; ComponentLink1Description: http://www.mouser.com/ds/2/405/tps65270-449835.pdf; Supplier 2: Digi-Key; Supplier Part Number 2: 296-30079-1-ND; Stock 2: 2948; Pricing 2: 1=2.85, 10=2.554, 25=2.2964, 100=2.0887, 250=1.89068, 500=1.6927, 750=1.53431, 1000=1.23735 (EUR); Operating Temperature: -40°C ~ 85°C; Mounting Type: Surface Mount; Package / Case: 24-VFQFN Exposed Pad; Supplier Device Package: 24-VQFN (4x4); ComponentLink2URL: http://www.ti.com/lit/ds/symlink/tps65270.pdf; ComponentLink2Description: http://www.ti.com/lit/ds/symlink/tps65270.pdf
footprint QFN50P400X400X100_HS-25N (QFN, 24-Leads, Body 4,00x4,00mm, Pitch 0,50mm, Thermal Pad 2,50x2,50mm, IPC Medium Density)
pins: 1 SS2, 2 FB2, 3 EN2 (in), 4 BST2, 5 VIN2 (power), 6 LX2, 7 LX2, 8 GND (power), 9 GND (power), 10 GND (power), 11 GND (power), 12 LX1, 13 LX1, 14 VIN1 (power), 15 BST1, 16 EN1  (in), 17 FB1, 18 SS1, 19 COMP1, 20 LOW_P (in), 21 VCC (power), 22 AGND (power), 23 ROSC, 24 COMP2, 25 EP (power)

## TQP3M9038
designator U?
RF Amplifier 50-4000MHz NF 2dB Gain 14.7dB 50 ohm; Manufacturer: TriQuint (Qorvo); Manufacturer Part Number: TQP3M9038; Operating Frequency: 50 MHz to 4 GHz; Gain: 14.9 dB; OIP3 - Third Order Intercept: 39.5 dBm; Operating Supply Current: 85 mA; Operating Supply Voltage: 5 V; P1dB - Compression Point: 21.6 dBm; Test Frequency: 1.9 GHz; Supplier 1: Mouser; RoHS: RoHS Compliant; Category: RF Amplifier; Stock 1: 2102; Pricing 1: 1=4.67, 25=3.46, 100=2.56, 250=2.43, 500=2.31, 1000=2.19, 2500=2.08, 5000=1.98 (EUR); Package/Case: QFN-16; Packaging: Reel; Series: TQP; Type: General Purpose Amplifier; Brand: TriQuint (Qorvo); Mounting Style: SMD/SMT; Maximum Operating Temperature: + 85 C; NF - Noise Figure: 2 dB; Standard Pack Qty: 2500; RoHS - Mouser: Y; Minimum Order Quantity: 1; Reeling: True; ComponentLink1URL: http://www.triquint.com/products/d/DOC-B-00000042; ComponentLink1Description: http://www.triquint.com/products/d/DOC-B-00000042; Supplier Part Number 1: 772-TQP3M9038
footprint QFN50P300X300X85_HS-17L-Triquint (QFN, 16-Leads, Body 3,00x3,00mm, Pitch 0,50mm, Thermal Pad 1,70x1,70mm, IPC High Density)
part A pins: 2 RF IN, 11 RF OUT, 17 GND (power)
part B pins: 1 NC, 3 NC, 4 NC, 5 NC, 6 NC, 7 NC, 8 NC, 9 NC, 10 NC, 12 NC, 13 NC, 14 NC, 15 NC, 16 NC

## TQP4M9072
designator U?
Active Attenuator DC-4GHz 57dBm IP3 IL 7.7dB @ 2GHz; Manufacturer: TriQuint Semiconductor; Manufacturer Part Number: TQP4M9072; Impedance: 50 Ohms; Number of Bits: 6 bit; Number of Channels: 1 Channel; Maximum Attenuation: 31.5 dB; Maximum Frequency: 4 GHz; Minimum Frequency: 0.7 GHz; Supplier 1: Mouser; Supplier Part Number 1: 772-TQP4M9072; RoHS: RoHS Compliant; Category: Active Attenuator; Stock 1: 2219; Pricing 1: 1=3.62, 25=2.67, 100=1.98, 250=1.89, 500=1.79, 1000=1.70, 2500=1.62, 5000=1.54 (EUR); Package/Case: QFN-24; Packaging: Reel; Series: TQP; Brand: TriQuint Semiconductor; Mounting Style: SMD/SMT; Maximum Operating Temperature: + 85 C; Minimum Operating Temperature: - 40 C; Standard Pack Qty: 2500; RoHS - Mouser: Y; Minimum Order Quantity: 1; Reeling: True
footprint QFN50P400X400X90_HS-25N (QFN, 24-Leads, Body 4,00x4,00mm, Pitch 0,50mm, Thermal Pad 2,70x2,70mm, IPC Medium Density)
pins: 2 CLK (in), 3 SERIN (in), 4 LE (in), 5 GND (power), 6 RFIN, 7 ACGND1 (power), 8 ACGND2 (power), 9 ACGND3 (power), 10 ACGND4 (power), 11 ACGND5 (power), 12 ACGND6 (power), 13 RFOUT, 14 GND (power), 15 SEROUT (out), 18 VDD (power), 25 GND (power)

## TRF37A73IDSGT
designator U?
Texas Instruments 1 to 6000 MHz 12dB RF Gain Block with Powerdown Pin 8-WSON -40 to 85; Manufacturer Part Number: TRF37A73IDSGT; Frequency: 1MHz ~ 6GHz; P1dB: 14.5dBm; Noise Figure: 4.5dB; Voltage - Supply: 3.3V; Current - Supply: 55mA; Test Frequency: 2GHz; Supplier 1: Digi-Key; Supplier Part Number 1: TRF37A73IDSGT-ND; Manufacturer: Texas Instruments; RoHS: RoHS Compliant; Category: RF/IF and RFID; Stock 1: 0; Pricing 1: 500=1.4351 (EUR); Packaging: *; Gain: 12dB; RF Type: -; Package / Case: *; Supplier Device Package: *; ComponentLink1URL: http://www.ti.com/lit/ds/symlink/trf37a73.pdf; ComponentLink1Description: http://www.ti.com/lit/ds/symlink/trf37a73.pdf; Supplier 2: Mouser; Supplier Part Number 2: N/A; Stock 2: 0; Series: TRF37A73; Brand: Texas Instruments; Minimum Order Quantity: 1; Reeling: False; ComponentLink2URL: http://www.ti.com/lit/gpn/trf37a73; ComponentLink2Description: http://www.ti.com/lit/gpn/trf37a73
footprint DFN50P200X200X80_HS-9N (DFN, 8-Leads, Body 2,00x2,00mm, Pitch 0,50mm, Thermal Pad 1,60x0,90mm, IPC Medium Density)
pins: 1 VCC (power), 2 RFIN, 3 GND (power), 4 GND (power), 5 PWDN (in), 6 GND (power), 7 RFOUT, 8 GND (power), 9 GND (power)

## TSS-53LNB+
designator U?
Wideband Bypass LNA 0,5-6GHz; Manufacturer: Minicircuits; Manufacturer Part Number: TSS-53LNB+; Pricing 1: 20=2.79 (USD); Supplier 1: Minicircuits; Supplier Part Number 1: TSS-53LNB+
footprint DQ1225 MINICIRCUITS (QFN, 12-Leads, Body 3,00x3,00mm, Pitch 0,51mm, Thermal Pad 1,45x1,45mm, IPC High Density)
pins: 1 GND (power), 2 RF IN, 3 GND (power), 4 GND (power), 5 GND (power), 6 GND (power), 7 GND (power), 8 RF OUT, 9 VDD (power), 10 GND (power), 11 VEN (in), 12 CC, 13 GND (power)

## TWEAALSANF-28.800000
designator X?
OSC TCXO 28.8MHZ 3.3V CLP SW SMD; Manufacturer: Taitien; Output: Clipped Sine Wave; Voltage - Supply: 2.8 V ~ 3.3 V; Frequency Stability: ±500ppb; Current - Supply (Max): 3.5mA; Supplier 1: Digi-Key; Manufacturer Part Number: TWEAALSANF-28.800000; RoHS: RoHS Compliant; Category: Crystals, Oscillators, Resonators; Stock 1: 21; Pricing 1: 1=9.16, 10=8.584, 50=8.2984, 100=8.0122, 500=7.726, 1000=7.15371 (EUR); Packaging: Cut Strip; Part Status: Active; Type: VCTCXO; Frequency: 28.8MHz; Function: -; Operating Temperature: -40°C ~ 85°C; Ratings: -; Mounting Type: Surface Mount; Package / Case: 4-SMD, No Lead; Size / Dimension: 0.197" L x 0.126" W (5.00mm x 3.20mm); Height - Seated (Max): 0.065" (1.65mm); Current - Supply (Disable) (Max): -; ComponentLink1URL: http://www.taitien.com/wp-content/uploads/2015/12/XO-0084_TW_TYPE_TCXO.pdf; ComponentLink1Description: http://www.taitien.com/wp-content/uploads/2015/12/XO-0084_TW_TYPE_TCXO.pdf; Supplier Part Number 1: 1664-1227-ND
footprint TWEAALSANF  TCXO
pins: 1 NC, 2 GND (power), 3 OUT (out), 4 VCC (power)

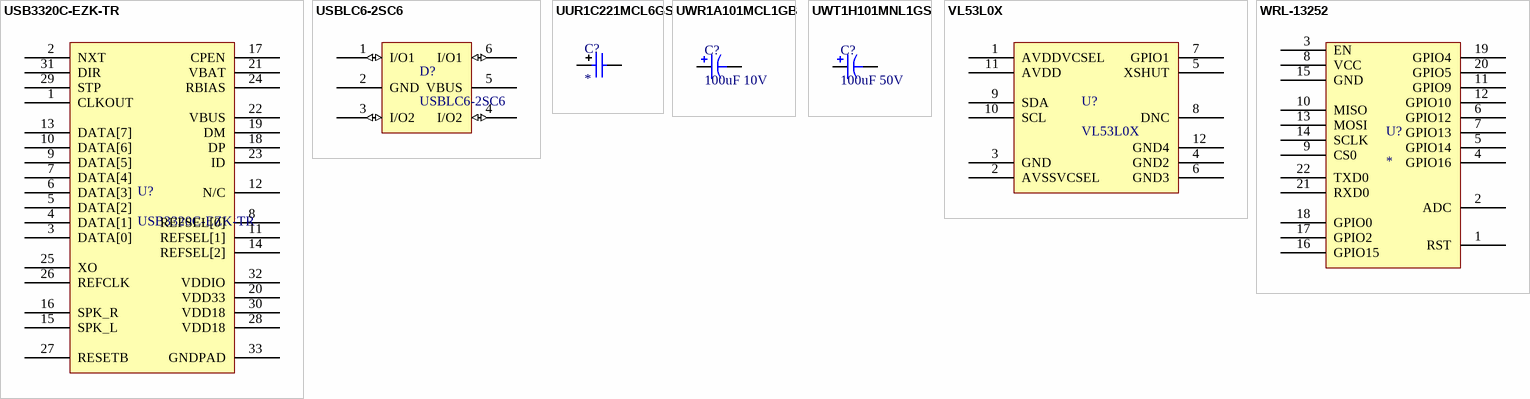
[diagram p14: symbols USB3320C-EZK-TR to WRL-13252]

## USB3320C-EZK-TR
designator U?
IC TXRX USB 2.0 FLEXPWR 32QFN; Manufacturer: Microchip Technology; Protocol: USB 2.0; Number of Drivers/Receivers: 1/1; Duplex: Half; Voltage - Supply: 1.8 V ~ 3.3 V; Supplier 1: Digi-Key; Manufacturer Part Number: USB3320C-EZK-TR; RoHS: RoHS Compliant; Category: Integrated Circuits (ICs); Stock 1: 21726; Pricing 1: 1=1.4, 25=1.166, 100=1.0666 (EUR); Packaging: Cut Tape (CT); Part Status: Active; Type: Transceiver; Data Rate: -; Operating Temperature: -40°C ~ 85°C; Mounting Type: Surface Mount; Package / Case: 32-VFQFN Exposed Pad; Supplier Device Package: 32-QFN (5x5); ComponentLink1URL: http://www.microchip.com/mymicrochip/filehandler.aspx?ddocname=en562261; ComponentLink1Description: http://www.microchip.com/mymicrochip/filehandler.aspx?ddocname=en562261; Supplier Part Number 1: USB3320C-EZK-CT-ND
footprint QFN127P600-8N
pins: 1 CLKOUT, 2 NXT, 3 DATA[0], 4 DATA[1], 5 DATA[2], 6 DATA[3], 7 DATA[4], 8 REFSEL[0], 9 DATA[5], 10 DATA[6], 11 REFSEL[1], 12 N/C, 13 DATA[7], 14 REFSEL[2], 15 SPK_L, 16 SPK_R, 17 CPEN, 18 DP, 19 DM, 20 VDD33, 21 VBAT, 22 VBUS, 23 ID, 24 RBIAS, 25 XO, 26 REFCLK, 27 RESETB, 28 VDD18, 29 STP, 30 VDD18, 31 DIR, 32 VDDIO, 33 GNDPAD

## USBLC6-2SC6
designator D?
TVS DIODE 5.25VWM 17VC SOT23-6; Manufacturer: STMicroelectronics; Type: Steering (Rail to Rail); Unidirectional Channels: 2; Voltage - Reverse Standoff (Typ): 5.25V; Voltage - Breakdown (Min): 6V; Voltage - Clamping (Max) @ Ipp: 17V; Current - Peak Pulse (10/1000µs): 5A (8/20µs); Power Line Protection: Yes; Frequency: 28.8MHz; Output: Clipped Sine Wave; Voltage - Supply: 2.8 V ~ 3.3 V; Frequency Stability: ±500ppb; Current - Supply (Max): 3.5mA; Supplier 1: Digi-Key; Manufacturer Part Number: USBLC6-2SC6; RoHS: RoHS Compliant; Category: Circuit Protection; Stock 1: 32935; Pricing 1: 1=0.48, 10=0.384, 100=0.2616, 500=0.19616, 1000=0.14713 (EUR); Packaging: Cut Tape (CT); Part Status: Active; Bidirectional Channels: -; Power - Peak Pulse: -; Applications: Ethernet; Capacitance @ Frequency: -; Operating Temperature: -40°C ~ 125°C (TJ); Mounting Type: Surface Mount; Package / Case: SOT-23-6; Supplier Device Package: SOT-23-6; ComponentLink1URL: http://www.st.com/content/ccc/resource/technical/document/datasheet/06/1d/48/9c/6c/20/4a/b2/CD00050750.pdf/files/CD00050750.pdf/jcr:content/translations/en.CD00050750.pdf; ComponentLink1Description: http://www.st.com/content/ccc/resource/technical/document/datasheet/06/1d/48/9c/6c/20/4a/b2/CD00050750.pdf/files/CD00050750.pdf/jcr:content/translations/en.CD00050750.pdf; Supplier Part Number 1: 497-5235-1-ND; Function: -; Ratings: -; Size / Dimension: 0.197" L x 0.126" W (5.00mm x 3.20mm); Height - Seated (Max): 0.065" (1.65mm); Current - Supply (Disable) (Max): -; ComponentLink2URL: http://www.taitien.com/wp-content/uploads/2015/12/XO-0084_TW_TYPE_TCXO.pdf; ComponentLink2Description: http://www.taitien.com/wp-content/uploads/2015/12/XO-0084_TW_TYPE_TCXO.pdf
footprint SOT95P280X145-6L
pins: 1 I/O1 (io), 2 GND (power), 3 I/O2 (io), 4 I/O2 (io), 5 VBUS (power), 6 I/O1 (io)

## UUR1C221MCL6GS
designator C?
CAP ALUM 220UF 20% 16V SMD; Manufacturer: Nichicon; Manufacturer Part Number: UUR1C221MCL6GS; Capacitance: 220µF; Lifetime @ Temp.: 2000 Hrs @ 85°C; Ripple Current: 162mA; Surface Mount Land Size: 0.260" L x 0.260" W (6.60mm x 6.60mm); Supplier 1: Digi-Key; RoHS: RoHS Compliant; Category: Capacitors; Stock 1: 3936; Pricing 1: 1=0.32, 10=0.221, 25=0.1812, 50=0.1544, 100=0.1325, 250=0.1104 (EUR); Packaging: Cut Tape (CT); Part Status: Active; Tolerance: ±20%; Voltage Rating: 16V; ESR (Equivalent Series Resistance): -; Operating Temperature: -40°C ~ 85°C; Polarization: -; Applications: General Purpose; Impedance: -; Lead Spacing: -; Size / Dimension: 0.248" Dia (6.30mm); Height - Seated (Max): 0.315" (8.00mm); Mounting Type: Surface Mount; Package / Case: Radial, Can - SMD; ComponentLink1URL: http://nichicon-us.com/english/products/pdfs/e-uur.pdf; ComponentLink1Description: http://nichicon-us.com/english/products/pdfs/e-uur.pdf; Supplier Part Number 1: 493-6214-1-ND
footprint SMD Cap electrolitic
pins: 1, 2

## UWR1A101MCL1GB
designator C?, comment 100uF 10V
CAP ALUM 100UF 20% 10V SMD; Manufacturer: Nichicon; Manufacturer Part Number: UWR1A101MCL1GB; Capacitance: 100µF; Lifetime @ Temp.: 2000 Hrs @ 105°C; Polarization: Polar; Ripple Current: 54mA @ 120Hz; Surface Mount Land Size: 0.260" L x 0.260" W (6.60mm x 6.60mm); Supplier 1: Digi-Key; RoHS: RoHS Compliant; Category: Capacitors; Stock 1: 6528; Pricing 1: 1=0.22, 10=0.153, 25=0.1224, 50=0.102, 100=0.0867, 250=0.06884, 500=0.06118 (EUR); Packaging: Digi-Reel®; Part Status: Active; Tolerance: ±20%; Voltage Rating: 10V; ESR (Equivalent Series Resistance): -; Operating Temperature: -40°C ~ 85°C; Applications: General Purpose; Impedance: -; Lead Spacing: -; Size / Dimension: 0.248" Dia (6.30mm); Height - Seated (Max): 0.217" (5.50mm); Mounting Type: Surface Mount; Package / Case: Radial, Can - SMD; ComponentLink1URL: http://nichicon-us.com/english/products/pdfs/e-uwx.pdf; ComponentLink1Description: http://nichicon-us.com/english/products/pdfs/e-uwx.pdf; Supplier Part Number 1: 493-14561-6-ND
footprint CAP POL SMD_6.3MM (Aluminum Electrolytic Capacitor, Body 6.60x6.60x5.40mm, IPC Low Density)
pins: 1, 2

## UWT1H101MNL1GS
designator C?, comment 100uF 50V
CAP ALUM 100UF 20% 50V SMD; Manufacturer: Nichicon; Manufacturer Part Number: UWT1H101MNL1GS; Capacitance: 100µF; Lifetime @ Temp.: 1000 Hrs @ 105°C; Polarization: Polar; Ripple Current: 140mA; Surface Mount Land Size: 0.327" L x 0.327" W (8.30mm x 8.30mm); Supplier 1: Digi-Key; RoHS: RoHS Compliant; Category: Capacitors; Stock 1: 37755; Pricing 1: 1=0.41, 10=0.289, 25=0.2472, 50=0.2188, 100=0.1905, 250=0.16232 (EUR); Packaging: Cut Tape (CT); Part Status: Active; Tolerance: ±20%; Voltage Rating: 50V; ESR (Equivalent Series Resistance): -; Operating Temperature: -55°C ~ 105°C; Applications: General Purpose; Impedance: -; Lead Spacing: -; Size / Dimension: 0.315" Dia (8.00mm); Height - Seated (Max): 0.413" (10.50mm); Mounting Type: Surface Mount; Package / Case: Radial, Can - SMD; ComponentLink1URL: http://nichicon-us.com/english/products/pdfs/e-uwt.pdf; ComponentLink1Description: http://nichicon-us.com/english/products/pdfs/e-uwt.pdf; Supplier Part Number 1: 493-2226-1-ND
footprint CAPAE6.3X5.4M-nichi (Aluminum Electrolytic Capacitor, Body 6,60x6,60x5,40mm, IPC Low Density)
pins: 1, 2

## VL53L0X
designator U?
TOF distance sensor
footprint PQFN80P440X240X100-12N VL53L0X (PQFN, 12-Leads, Body 4,40x2,40mm, Pitch 0,80mm, IPC Medium Density)
pins: 1 AVDDVCSEL, 2 AVSSVCSEL, 3 GND, 4 GND2, 5 XSHUT, 6 GND3, 7 GPIO1, 8 DNC, 9 SDA, 10 SCL, 11 AVDD, 12 GND4

## WRL-13252
designator U?
WIFI MODULE - ESP8266; Manufacturer: SparkFun Electronics; Manufacturer Part Number: WRL-13252; Protocol: 802.11b/g/n; Frequency: 2.4GHz ~ 2.48GHz; Data Rate: 54Mbps; Power - Output: 19.5dBm; Sensitivity: -98dBm; Serial Interfaces: SPI, UART; Antenna Type: Integrated, Trace; Voltage - Supply: 3.3V; Current - Receiving: 62mA; Current - Transmitting: 215mA; Supplier 1: Digi-Key; RoHS: RoHS Compliant; Category: RF/IF and RFID; Stock 1: 0; Pricing 1: 1=0 (EUR); Packaging: Bulk; Part Status: Obsolete; RF Family/Standard: WiFi; Modulation: -; Memory Size: -; Mounting Type: Through Hole; Operating Temperature: -; Package / Case: Module; ComponentLink1URL: https://nurdspace.nl/images/e/e0/ESP8266_Specifications_English.pdf; ComponentLink1Description: https://nurdspace.nl/images/e/e0/ESP8266_Specifications_English.pdf; Supplier Part Number 1: 1568-1118-ND
footprint ESP8266-12
pins: 1 RST, 2 ADC, 3 EN, 4 GPIO16, 5 GPIO14, 6 GPIO12, 7 GPIO13, 8 VCC, 9 CS0, 10 MISO, 11 GPIO9, 12 GPIO10, 13 MOSI, 14 SCLK, 15 GND, 16 GPIO15, 17 GPIO2, 18 GPIO0, 19 GPIO4, 20 GPIO5, 21 RXD0, 22 TXD0